# Altium schematic symbol library QuadESDDiode_TEConnectivity_SESD0802Q4UG.Schlib: 1 symbol
Pins are listed as number, name and electrical type; pins without a type are passive.

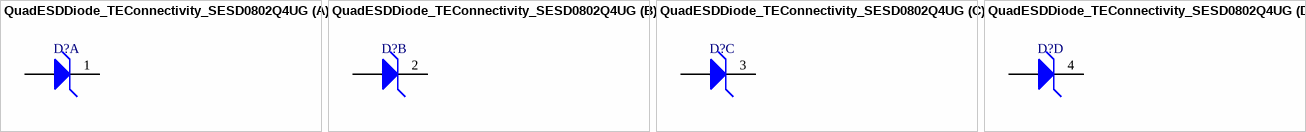
[diagram p0: symbol QuadESDDiode_TEConnectivity_SESD0802Q4UG]

## QuadESDDiode_TEConnectivity_SESD0802Q4UG
designator D?
part A pins: 1 K, G A
part B pins: 2 K, G A
part C pins: 3 K, G A
part D pins: 4 K, G A